# Altium schematic symbol library IRFS52N15DPBF.Schlib: 1 symbol
Pins are listed as number, name and electrical type; pins without a type are passive.

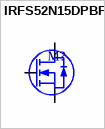
[diagram p0: symbol IRFS52N15DPBF]

## IRFS52N15DPBF
designator M?
150V 51A N-Channel
pins: 1 G, 3 S, 4 D